# Altium schematic symbol library LT8471IFE#PBF.SchLib: 1 symbol
Pins are listed as number, name and electrical type; pins without a type are passive.

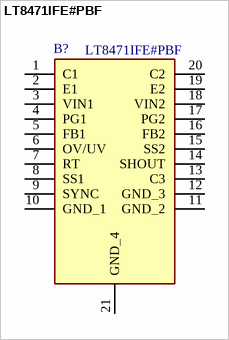
[diagram p0: symbol LT8471IFE#PBF]

## LT8471IFE#PBF
designator B?
DC/DC CONVERTER, MULTITOPOLOGY, 50V, TSSOP-20; Supply Voltage:50V; No. of Step-Down DC - DC Converters:2; No. of LDO Regulators:-; No. of Regulated Outputs:2; Digital IC Case:TSSOP; No. of Pins:20Pins; Operating Temperature Min:-40CRoHS Compliant: Yes; Manufacturer_Name: Analog Devices; Geometry.Height: 1.2mm; Mouser Part Number: 584-LT8471IFE#PBF; Mouser Price/Stock: https://www.mouser.co.uk/ProductDetail/Analog-Devices/LT8471IFEPBF?qs=hVkxg5c3xu%2FiDctk9AXMtQ%3D%3D; Manufacturer_Part_Number: LT8471IFE#PBF; Datasheet Link: https://www.analog.com/media/en/technical-documentation/data-sheets/8471fd.pdf
footprint SOP65P640X120-21N
pins: 1 C1, 2 E1, 3 VIN1, 4 PG1, 5 FB1, 6 OV/UV, 7 RT, 8 SS1, 9 SYNC, 10 GND_1, 11 GND_2, 12 GND_3, 13 C3, 14 SHOUT, 15 SS2, 16 FB2, 17 PG2, 18 VIN2, 19 E2, 20 C2, 21 GND_4